# EAGLE library part TMM-110-03-S-D (library TMM-110-03-S-D)
Headers & Wire Housings Low Profile Tiger Eye Header Strips, 2.00 mm Pitch 20pos 10 per row double row header Source: Datasheet <https://suddendocs.samtec.com/prints/tmm-1xx-xx-xx-x-xx-xxx-mkt1.pdf?_gl=1*73eo0b*_ga*MTA2MjMwMjY5Ny4xNjcwNzQ1Mjgy*_ga_3KFNZC07WW*MTY3ODk3OTE3MS40Ni4xLjE2Nzg5NzkzNDQuNjAuMC4w>
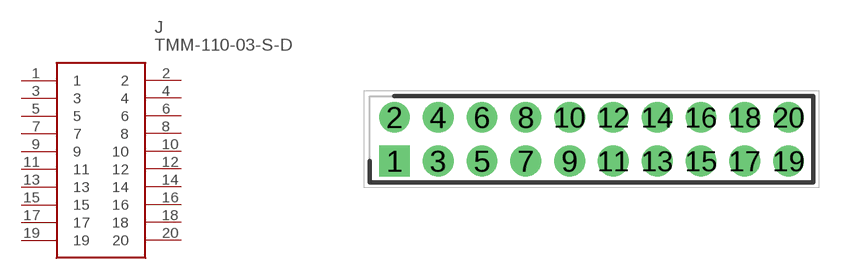
[diagram p0: symbol with the pads of HDRV20W50P200_2X10_2000X394X57; footprint HDRV20W50P200_2X10_2000X394X57]

Designator prefix J

## TMM-110-03-S-D (Description: Headers & Wire Housings Low Profile Tiger Eye Header Strips, 2.00 mm Pitch 20pos 10 per row double row header; Height: 5.75mm; Manufacturer_Name: SAMTEC; Manufacturer_Part_Number: TMM-110-03-S-D)  [HDRV20W50P200_2X10_2000X394X57]
1  1
2  2
3  3
4  4
5  5
6  6
7  7
8  8
9  9
10  10
11  11
12  12
13  13
14  14
15  15
16  16
17  17
18  18
19  19
20  20

## Footprint HDRV20W50P200_2X10_2000X394X57 (pad centres in mm)
TMM-110-03-S-D
drill 0.9 pad 1.35 square: 1 0,0
drill 0.9 pad 1.35: 2 0,2; 3 2,0; 4 2,2; 5 4,0; 6 4,2; 7 6,0; 8 6,2; 9 8,0; 10 8,2; 11 10,0; 12 10,2; 13 12,0; 14 12,2; 15 14,0; 16 14,2; 17 16,0; 18 16,2; 19 18,0; 20 18,2